# EAGLE library part TPS25910 (library vikc-ic)
The TPS25910 device provides highly integrated hot-swap power management and superior protection in applications up to 20 V. The maximum UV turn-on threshold of 2.9 V makes the TPS25910 device well suited to standard bus voltages as low as 3.3 V. This device is intended for systems where a voltage bus must be protected from undesired permanent and transient overload.
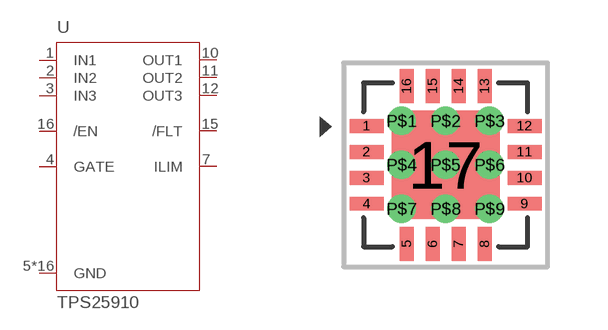
[diagram p18: symbol with the pads of QFN65P400X400X100-17N; footprint QFN65P400X400X100-17N]

Designator prefix U

## TPS25910  [QFN65P400X400X100-17N]
1  IN1  in
2  IN2  in
3  IN3  in
4  GATE  out
5  GND
6  GND
7  ILIM  in
8  GND
9  GND
10  OUT1  in
11  OUT2  in
12  OUT3  out
13  GND
14  GND
15  /FLT  out
16  /EN  in
17  GND
P$1  GND
P$2  GND
P$3  GND
P$4  GND
P$5  GND
P$6  GND
P$7  GND
P$8  GND
P$9  GND

## Footprint QFN65P400X400X100-17N (pad centres in mm)
smd 0.85 x 0.35: 1 -1.975,0.975; 2 -1.975,0.325; 3 -1.975,-0.325; 4 -1.975,-0.975; 9 1.975,-0.975; 10 1.975,-0.325; 11 1.975,0.325; 12 1.975,0.975
smd 0.35 x 0.85: 5 -0.975,-1.975; 6 -0.325,-1.975; 7 0.325,-1.975; 8 0.975,-1.975; 13 0.975,1.975; 14 0.325,1.975; 15 -0.325,1.975; 16 -0.975,1.975
smd 2.7 x 2.7: 17 0,0
drill 0.2 pad 0.3: P$1 -1.1,1.1; P$2 0,1.1; P$3 1.1,1.1; P$4 -1.1,0; P$5 0,0; P$6 1.1,0; P$7 -1.1,-1.1; P$8 0,-1.1; P$9 1.1,-1.1